# Altium schematic symbol library LFB182G45CGFD436.SchLib: 1 symbol
Pins are listed as number, name and electrical type; pins without a type are passive.

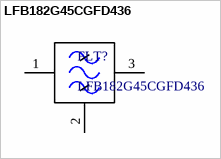
[diagram p0: symbol LFB182G45CGFD436]

## LFB182G45CGFD436
designator FLT?
Band Pass Filter
pins: 1, 2, 3